# Altium integrated library WE-TIS_rev15a.intlib: 32 symbols
Pins are listed as number, name and electrical type; pins without a type are passive.

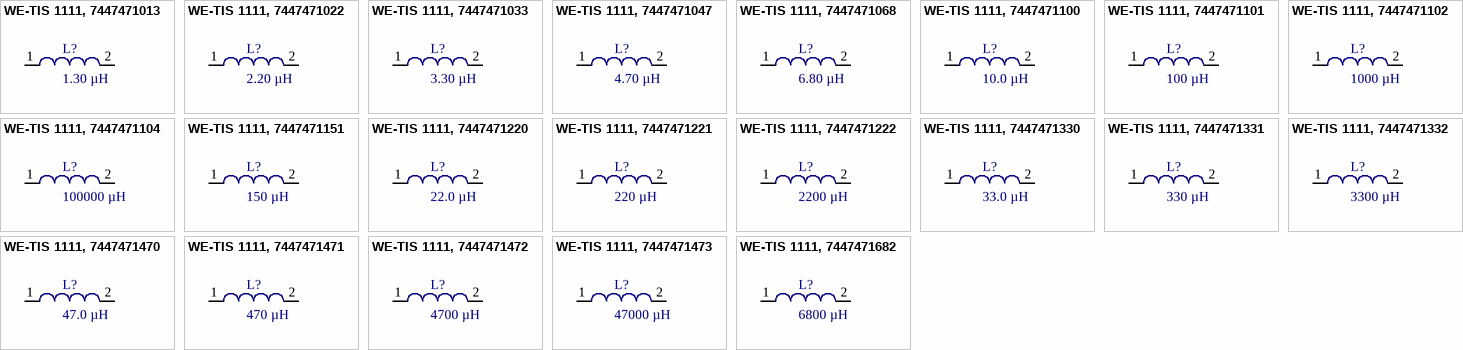
[diagram p0: symbols WE-TIS 1111, 7447471013 to WE-TIS 1111, 7447471682]

## WE-TIS 1111, 7447471013
designator L?, comment 1.30 µH
Shielded Radial Leaded Wire Wound Inductor WE-TIS, L=1.30 µH; partNo: 7447471013; Manufacturer: Würth Elektronik eiSos GmbH; Inductance: 1.30 µH; ComponentLink1Description: Manufacturer; ComponentLink1URL: http://www.we-online.de; Created by: Christin Otto; Created Date: November 2013; ComponentLink2Description: Datasheet; ComponentLink2URL: http://www.we-online.de/katalog/media/pdf/7447471013.pdf
footprint WE-TIS 1111 (THT, 2-Leads, Body 11,0x11,0mm, Pitch 5mm)
pins: 1, 2

## WE-TIS 1111, 7447471022
designator L?, comment 2.20 µH
Shielded Radial Leaded Wire Wound Inductor WE-TIS, L=2.20 µH; partNo: 7447471022; Manufacturer: Würth Elektronik eiSos GmbH; Inductance: 2.20 µH; ComponentLink1Description: Manufacturer; ComponentLink1URL: http://www.we-online.de; Created by: Christin Otto; Created Date: November 2013; ComponentLink2Description: Datasheet; ComponentLink2URL: http://www.we-online.de/katalog/media/pdf/7447471022.pdf
footprint WE-TIS 1111 (THT, 2-Leads, Body 11,0x11,0mm, Pitch 5mm)
pins: 1, 2

## WE-TIS 1111, 7447471033
designator L?, comment 3.30 µH
Shielded Radial Leaded Wire Wound Inductor WE-TIS, L=3.30 µH; partNo: 7447471033; Manufacturer: Würth Elektronik eiSos GmbH; Inductance: 3.30 µH; ComponentLink1Description: Manufacturer; ComponentLink1URL: http://www.we-online.de; Created by: Christin Otto; Created Date: November 2013; ComponentLink2Description: Datasheet; ComponentLink2URL: http://www.we-online.de/katalog/media/pdf/7447471033.pdf
footprint WE-TIS 1111 (THT, 2-Leads, Body 11,0x11,0mm, Pitch 5mm)
pins: 1, 2

## WE-TIS 1111, 7447471047
designator L?, comment 4.70 µH
Shielded Radial Leaded Wire Wound Inductor WE-TIS, L=4.70 µH; partNo: 7447471047; Manufacturer: Würth Elektronik eiSos GmbH; Inductance: 4.70 µH; ComponentLink1Description: Manufacturer; ComponentLink1URL: http://www.we-online.de; Created by: Christin Otto; Created Date: November 2013; ComponentLink2Description: Datasheet; ComponentLink2URL: http://www.we-online.de/katalog/media/pdf/7447471047.pdf
footprint WE-TIS 1111 (THT, 2-Leads, Body 11,0x11,0mm, Pitch 5mm)
pins: 1, 2

## WE-TIS 1111, 7447471068
designator L?, comment 6.80 µH
Shielded Radial Leaded Wire Wound Inductor WE-TIS, L=6.80 µH; partNo: 7447471068; Manufacturer: Würth Elektronik eiSos GmbH; Inductance: 6.80 µH; ComponentLink1Description: Manufacturer; ComponentLink1URL: http://www.we-online.de; Created by: Christin Otto; Created Date: November 2013; ComponentLink2Description: Datasheet; ComponentLink2URL: http://www.we-online.de/katalog/media/pdf/7447471068.pdf
footprint WE-TIS 1111 (THT, 2-Leads, Body 11,0x11,0mm, Pitch 5mm)
pins: 1, 2

## WE-TIS 1111, 7447471100
designator L?, comment 10.0 µH
Shielded Radial Leaded Wire Wound Inductor WE-TIS, L=10.0 µH; partNo: 7447471100; Manufacturer: Würth Elektronik eiSos GmbH; Inductance: 10.0 µH; ComponentLink1Description: Manufacturer; ComponentLink1URL: http://www.we-online.de; Created by: Christin Otto; Created Date: November 2013; ComponentLink2Description: Datasheet; ComponentLink2URL: http://www.we-online.de/katalog/media/pdf/7447471100.pdf
footprint WE-TIS 1111 (THT, 2-Leads, Body 11,0x11,0mm, Pitch 5mm)
pins: 1, 2

## WE-TIS 1111, 7447471101
designator L?, comment 100 µH
Shielded Radial Leaded Wire Wound Inductor WE-TIS, L=100 µH; partNo: 7447471101; Manufacturer: Würth Elektronik eiSos GmbH; Inductance: 100 µH; ComponentLink1Description: Manufacturer; ComponentLink1URL: http://www.we-online.de; Created by: Christin Otto; Created Date: November 2013; ComponentLink2Description: Datasheet; ComponentLink2URL: http://www.we-online.de/katalog/media/pdf/7447471101.pdf
footprint WE-TIS 1111 (THT, 2-Leads, Body 11,0x11,0mm, Pitch 5mm)
pins: 1, 2

## WE-TIS 1111, 7447471102
designator L?, comment 1000 µH
Shielded Radial Leaded Wire Wound Inductor WE-TIS, L=1000 µH; partNo: 7447471102; Manufacturer: Würth Elektronik eiSos GmbH; Inductance: 1000 µH; ComponentLink1Description: Manufacturer; ComponentLink1URL: http://www.we-online.de; Created by: Christin Otto; Created Date: November 2013; ComponentLink2Description: Datasheet; ComponentLink2URL: http://www.we-online.de/katalog/media/pdf/7447471102.pdf
footprint WE-TIS 1111 (THT, 2-Leads, Body 11,0x11,0mm, Pitch 5mm)
pins: 1, 2

## WE-TIS 1111, 7447471104
designator L?, comment 100000 µH
Shielded Radial Leaded Wire Wound Inductor WE-TIS, L=100000 µH; partNo: 7447471104; Manufacturer: Würth Elektronik eiSos GmbH; Inductance: 100000 µH; ComponentLink1Description: Manufacturer; ComponentLink1URL: http://www.we-online.de; Created by: Christin Otto; Created Date: November 2013; ComponentLink2Description: Datasheet; ComponentLink2URL: http://www.we-online.de/katalog/media/pdf/7447471104.pdf
footprint WE-TIS 1111 (THT, 2-Leads, Body 11,0x11,0mm, Pitch 5mm)
pins: 1, 2

## WE-TIS 1111, 7447471151
designator L?, comment 150 µH
Shielded Radial Leaded Wire Wound Inductor WE-TIS, L=150 µH; partNo: 7447471151; Manufacturer: Würth Elektronik eiSos GmbH; Inductance: 150 µH; ComponentLink1Description: Manufacturer; ComponentLink1URL: http://www.we-online.de; Created by: Christin Otto; Created Date: November 2013; ComponentLink2Description: Datasheet; ComponentLink2URL: http://www.we-online.de/katalog/media/pdf/7447471151.pdf
footprint WE-TIS 1111 (THT, 2-Leads, Body 11,0x11,0mm, Pitch 5mm)
pins: 1, 2

## WE-TIS 1111, 7447471220
designator L?, comment 22.0 µH
Shielded Radial Leaded Wire Wound Inductor WE-TIS, L=22.0 µH; partNo: 7447471220; Manufacturer: Würth Elektronik eiSos GmbH; Inductance: 22.0 µH; ComponentLink1Description: Manufacturer; ComponentLink1URL: http://www.we-online.de; Created by: Christin Otto; Created Date: November 2013; ComponentLink2Description: Datasheet; ComponentLink2URL: http://www.we-online.de/katalog/media/pdf/7447471220.pdf
footprint WE-TIS 1111 (THT, 2-Leads, Body 11,0x11,0mm, Pitch 5mm)
pins: 1, 2

## WE-TIS 1111, 7447471221
designator L?, comment 220 µH
Shielded Radial Leaded Wire Wound Inductor WE-TIS, L=220 µH; partNo: 7447471221; Manufacturer: Würth Elektronik eiSos GmbH; Inductance: 220 µH; ComponentLink1Description: Manufacturer; ComponentLink1URL: http://www.we-online.de; Created by: Christin Otto; Created Date: November 2013; ComponentLink2Description: Datasheet; ComponentLink2URL: http://www.we-online.de/katalog/media/pdf/7447471221.pdf
footprint WE-TIS 1111 (THT, 2-Leads, Body 11,0x11,0mm, Pitch 5mm)
pins: 1, 2

## WE-TIS 1111, 7447471222
designator L?, comment 2200 µH
Shielded Radial Leaded Wire Wound Inductor WE-TIS, L=2200 µH; partNo: 7447471222; Manufacturer: Würth Elektronik eiSos GmbH; Inductance: 2200 µH; ComponentLink1Description: Manufacturer; ComponentLink1URL: http://www.we-online.de; Created by: Christin Otto; Created Date: November 2013; ComponentLink2Description: Datasheet; ComponentLink2URL: http://www.we-online.de/katalog/media/pdf/7447471222.pdf
footprint WE-TIS 1111 (THT, 2-Leads, Body 11,0x11,0mm, Pitch 5mm)
pins: 1, 2

## WE-TIS 1111, 7447471330
designator L?, comment 33.0 µH
Shielded Radial Leaded Wire Wound Inductor WE-TIS, L=33.0 µH; partNo: 7447471330; Manufacturer: Würth Elektronik eiSos GmbH; Inductance: 33.0 µH; ComponentLink1Description: Manufacturer; ComponentLink1URL: http://www.we-online.de; Created by: Christin Otto; Created Date: November 2013; ComponentLink2Description: Datasheet; ComponentLink2URL: http://www.we-online.de/katalog/media/pdf/7447471330.pdf
footprint WE-TIS 1111 (THT, 2-Leads, Body 11,0x11,0mm, Pitch 5mm)
pins: 1, 2

## WE-TIS 1111, 7447471331
designator L?, comment 330 µH
Shielded Radial Leaded Wire Wound Inductor WE-TIS, L=330 µH; partNo: 7447471331; Manufacturer: Würth Elektronik eiSos GmbH; Inductance: 330 µH; ComponentLink1Description: Manufacturer; ComponentLink1URL: http://www.we-online.de; Created by: Christin Otto; Created Date: November 2013; ComponentLink2Description: Datasheet; ComponentLink2URL: http://www.we-online.de/katalog/media/pdf/7447471331.pdf
footprint WE-TIS 1111 (THT, 2-Leads, Body 11,0x11,0mm, Pitch 5mm)
pins: 1, 2

## WE-TIS 1111, 7447471332
designator L?, comment 3300 µH
Shielded Radial Leaded Wire Wound Inductor WE-TIS, L=3300 µH; partNo: 7447471332; Manufacturer: Würth Elektronik eiSos GmbH; Inductance: 3300 µH; ComponentLink1Description: Manufacturer; ComponentLink1URL: http://www.we-online.de; Created by: Christin Otto; Created Date: November 2013; ComponentLink2Description: Datasheet; ComponentLink2URL: http://www.we-online.de/katalog/media/pdf/7447471332.pdf
footprint WE-TIS 1111 (THT, 2-Leads, Body 11,0x11,0mm, Pitch 5mm)
pins: 1, 2

## WE-TIS 1111, 7447471470
designator L?, comment 47.0 µH
Shielded Radial Leaded Wire Wound Inductor WE-TIS, L=47.0 µH; partNo: 7447471470; Manufacturer: Würth Elektronik eiSos GmbH; Inductance: 47.0 µH; ComponentLink1Description: Manufacturer; ComponentLink1URL: http://www.we-online.de; Created by: Christin Otto; Created Date: November 2013; ComponentLink2Description: Datasheet; ComponentLink2URL: http://www.we-online.de/katalog/media/pdf/7447471470.pdf
footprint WE-TIS 1111 (THT, 2-Leads, Body 11,0x11,0mm, Pitch 5mm)
pins: 1, 2

## WE-TIS 1111, 7447471471
designator L?, comment 470 µH
Shielded Radial Leaded Wire Wound Inductor WE-TIS, L=470 µH; partNo: 7447471471; Manufacturer: Würth Elektronik eiSos GmbH; Inductance: 470 µH; ComponentLink1Description: Manufacturer; ComponentLink1URL: http://www.we-online.de; Created by: Christin Otto; Created Date: November 2013; ComponentLink2Description: Datasheet; ComponentLink2URL: http://www.we-online.de/katalog/media/pdf/7447471471.pdf
footprint WE-TIS 1111 (THT, 2-Leads, Body 11,0x11,0mm, Pitch 5mm)
pins: 1, 2

## WE-TIS 1111, 7447471472
designator L?, comment 4700 µH
Shielded Radial Leaded Wire Wound Inductor WE-TIS, L=4700 µH; partNo: 74474714722; Manufacturer: Würth Elektronik eiSos GmbH; Inductance: 4700 µH; ComponentLink1Description: Manufacturer; ComponentLink1URL: http://www.we-online.de; Created by: Christin Otto; Created Date: November 2013; ComponentLink2Description: Datasheet; ComponentLink2URL: http://www.we-online.de/katalog/media/pdf/7447471472.pdf
footprint WE-TIS 1111 (THT, 2-Leads, Body 11,0x11,0mm, Pitch 5mm)
pins: 1, 2

## WE-TIS 1111, 7447471473
designator L?, comment 47000 µH
Shielded Radial Leaded Wire Wound Inductor WE-TIS, L=47000 µH; partNo: 7447471473; Manufacturer: Würth Elektronik eiSos GmbH; Inductance: 47000 µH; ComponentLink1Description: Manufacturer; ComponentLink1URL: http://www.we-online.de; Created by: Christin Otto; Created Date: November 2013; ComponentLink2Description: Datasheet; ComponentLink2URL: http://www.we-online.de/katalog/media/pdf/7447471473.pdf
footprint WE-TIS 1111 (THT, 2-Leads, Body 11,0x11,0mm, Pitch 5mm)
pins: 1, 2

## WE-TIS 1111, 7447471682
designator L?, comment 6800 µH
Shielded Radial Leaded Wire Wound Inductor WE-TIS, L=6800 µH; partNo: 7447471682; Manufacturer: Würth Elektronik eiSos GmbH; Inductance: 6800 µH; ComponentLink1Description: Manufacturer; ComponentLink1URL: http://www.we-online.de; Created by: Christin Otto; Created Date: November 2013; ComponentLink2Description: Datasheet; ComponentLink2URL: http://www.we-online.de/katalog/media/pdf/7447471682.pdf
footprint WE-TIS 1111 (THT, 2-Leads, Body 11,0x11,0mm, Pitch 5mm)
pins: 1, 2


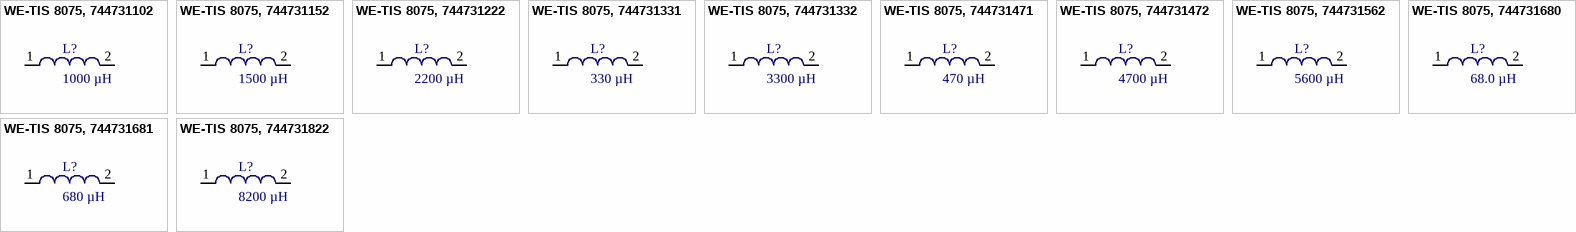
[diagram p1: symbols WE-TIS 8075, 744731102 to WE-TIS 8075, 744731822]

## WE-TIS 8075, 744731102
designator L?, comment 1000 µH
Shielded Radial Leaded Wire Wound Inductor WE-TIS, L=1000 µH; partNo: 744731102; Manufacturer: Würth Elektronik eiSos GmbH; Inductance: 1000 µH; ComponentLink1Description: Manufacturer; ComponentLink1URL: http://www.we-online.de; Created by: Christin Otto; Created Date: November 2013; ComponentLink2Description: Datasheet; ComponentLink2URL: http://www.we-online.de/katalog/media/pdf/744731102.pdf
footprint WE-TIS 8075 (THT, 2-Leads, Body 7,80x7,80mm, Pitch 5mm)
pins: 1, 2

## WE-TIS 8075, 744731152
designator L?, comment 1500 µH
Shielded Radial Leaded Wire Wound Inductor WE-TIS, L=1500 µH; partNo: 744731152; Manufacturer: Würth Elektronik eiSos GmbH; Inductance: 1500 µH; ComponentLink1Description: Manufacturer; ComponentLink1URL: http://www.we-online.de; Created by: Christin Otto; Created Date: November 2013; ComponentLink2Description: Datasheet; ComponentLink2URL: http://www.we-online.de/katalog/media/pdf/744731152.pdf
footprint WE-TIS 8075 (THT, 2-Leads, Body 7,80x7,80mm, Pitch 5mm)
pins: 1, 2

## WE-TIS 8075, 744731222
designator L?, comment 2200 µH
Shielded Radial Leaded Wire Wound Inductor WE-TIS, L=2200 µH; partNo: 744731222; Manufacturer: Würth Elektronik eiSos GmbH; Inductance: 2200 µH; ComponentLink1Description: Manufacturer; ComponentLink1URL: http://www.we-online.de; Created by: Christin Otto; Created Date: November 2013; ComponentLink2Description: Datasheet; ComponentLink2URL: http://www.we-online.de/katalog/media/pdf/744731222.pdf
footprint WE-TIS 8075 (THT, 2-Leads, Body 7,80x7,80mm, Pitch 5mm)
pins: 1, 2

## WE-TIS 8075, 744731331
designator L?, comment 330 µH
Shielded Radial Leaded Wire Wound Inductor WE-TIS, L=330 µH; partNo: 744731331; Manufacturer: Würth Elektronik eiSos GmbH; Inductance: 330 µH; ComponentLink1Description: Manufacturer; ComponentLink1URL: http://www.we-online.de; Created by: Christin Otto; Created Date: November 2013; ComponentLink2Description: Datasheet; ComponentLink2URL: http://www.we-online.de/katalog/media/pdf/744731331.pdf
footprint WE-TIS 8075 (THT, 2-Leads, Body 7,80x7,80mm, Pitch 5mm)
pins: 1, 2

## WE-TIS 8075, 744731332
designator L?, comment 3300 µH
Shielded Radial Leaded Wire Wound Inductor WE-TIS, L=3300 µH; partNo: 744731332; Manufacturer: Würth Elektronik eiSos GmbH; Inductance: 3300 µH; ComponentLink1Description: Manufacturer; ComponentLink1URL: http://www.we-online.de; Created by: Christin Otto; Created Date: November 2013; ComponentLink2Description: Datasheet; ComponentLink2URL: http://www.we-online.de/katalog/media/pdf/744731332.pdf
footprint WE-TIS 8075 (THT, 2-Leads, Body 7,80x7,80mm, Pitch 5mm)
pins: 1, 2

## WE-TIS 8075, 744731471
designator L?, comment 470 µH
Shielded Radial Leaded Wire Wound Inductor WE-TIS, L=330 µH; partNo: 744731471; Manufacturer: Würth Elektronik eiSos GmbH; Inductance: 470 µH; ComponentLink1Description: Manufacturer; ComponentLink1URL: http://www.we-online.de; Created by: Christin Otto; Created Date: November 2013; ComponentLink2Description: Datasheet; ComponentLink2URL: http://www.we-online.de/katalog/media/pdf/744731471.pdf
footprint WE-TIS 8075 (THT, 2-Leads, Body 7,80x7,80mm, Pitch 5mm)
pins: 1, 2

## WE-TIS 8075, 744731472
designator L?, comment 4700 µH
Shielded Radial Leaded Wire Wound Inductor WE-TIS, L=4700 µH; partNo: 744731472; Manufacturer: Würth Elektronik eiSos GmbH; Inductance: 4700 µH; ComponentLink1Description: Manufacturer; ComponentLink1URL: http://www.we-online.de; Created by: Christin Otto; Created Date: November 2013; ComponentLink2Description: Datasheet; ComponentLink2URL: http://www.we-online.de/katalog/media/pdf/744731472.pdf
footprint WE-TIS 8075 (THT, 2-Leads, Body 7,80x7,80mm, Pitch 5mm)
pins: 1, 2

## WE-TIS 8075, 744731562
designator L?, comment 5600 µH
Shielded Radial Leaded Wire Wound Inductor WE-TIS, L=5600 µH; partNo: 744731562; Manufacturer: Würth Elektronik eiSos GmbH; Inductance: 5600 µH; ComponentLink1Description: Manufacturer; ComponentLink1URL: http://www.we-online.de; Created by: Christin Otto; Created Date: November 2013; ComponentLink2Description: Datasheet; ComponentLink2URL: http://www.we-online.de/katalog/media/pdf/744731562.pdf
footprint WE-TIS 8075 (THT, 2-Leads, Body 7,80x7,80mm, Pitch 5mm)
pins: 1, 2

## WE-TIS 8075, 744731680
designator L?, comment 68.0 µH
Shielded Radial Leaded Wire Wound Inductor WE-TIS, L=68.0 µH; partNo: 744731680; Manufacturer: Würth Elektronik eiSos GmbH; Inductance: 68.0 µH; ComponentLink1Description: Manufacturer; ComponentLink1URL: http://www.we-online.de; Created by: Christin Otto; Created Date: November 2013; ComponentLink2Description: Datasheet; ComponentLink2URL: http://www.we-online.de/katalog/media/pdf/744731680.pdf
footprint WE-TIS 8075 (THT, 2-Leads, Body 7,80x7,80mm, Pitch 5mm)
pins: 1, 2

## WE-TIS 8075, 744731681
designator L?, comment 680 µH
Shielded Radial Leaded Wire Wound Inductor WE-TIS, L=680 µH; partNo: 744731681; Manufacturer: Würth Elektronik eiSos GmbH; Inductance: 680 µH; ComponentLink1Description: Manufacturer; ComponentLink1URL: http://www.we-online.de; Created by: Christin Otto; Created Date: November 2013; ComponentLink2Description: Datasheet; ComponentLink2URL: http://www.we-online.de/katalog/media/pdf/744731681.pdf
footprint WE-TIS 8075 (THT, 2-Leads, Body 7,80x7,80mm, Pitch 5mm)
pins: 1, 2

## WE-TIS 8075, 744731822
designator L?, comment 8200 µH
Shielded Radial Leaded Wire Wound Inductor WE-TIS, L=8200 µH; partNo: 744731822; Manufacturer: Würth Elektronik eiSos GmbH; Inductance: 8200 µH; ComponentLink1Description: Manufacturer; ComponentLink1URL: http://www.we-online.de; Created by: Christin Otto; Created Date: November 2013; ComponentLink2Description: Datasheet; ComponentLink2URL: http://www.we-online.de/katalog/media/pdf/744731822.pdf
footprint WE-TIS 8075 (THT, 2-Leads, Body 7,80x7,80mm, Pitch 5mm)
pins: 1, 2